# EAGLE library part G2RL-2_12DC (library G2RL-2_12DC)
Check availability <https://pricing.snapeda.com/parts/G2RL-2%2012DC/Omron/view-part?ref=eda>
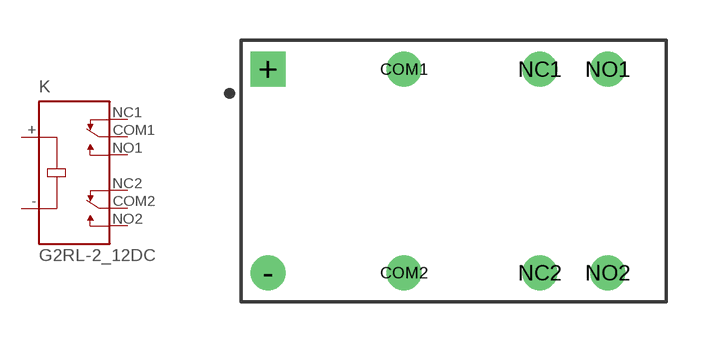
[diagram p0: symbol with the pads of RELAY_G2RL-2_12DC; footprint RELAY_G2RL-2_12DC]

Designator prefix K

## G2RL-2_12DC (AVAILABILITY: Not in stock; DESCRIPTION: Power Relay 12VDC 8A DPDT (( 29mm 12.7mm 15.7mm)) Through Hole; MF: Omron; MP: G2RL-2 12DC; PACKAGE: None; PRICE: None)  [RELAY_G2RL-2_12DC]
+  COIL1  pas
-  COIL2  pas
COM1  COM1  pas
COM2  COM2  pas
NC1  NC1  pas
NC2  NC2  pas
NO1  NO1  pas
NO2  NO2  pas

## Footprint RELAY_G2RL-2_12DC (pad centres in mm)
drill 0.8 square: + 1,8.71
drill 0.8: - 1,1.09; COM1 6.08,8.71; COM2 6.08,1.09; NC1 11.16,8.71; NC2 11.16,1.09; NO1 13.7,8.71; NO2 13.7,1.09